# Altium integrated library Battery Holder.IntLib: 2 symbols
Pins are listed as number, name and electrical type; pins without a type are passive.

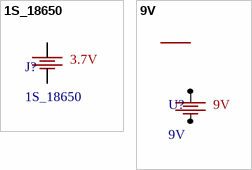
[diagram p0: symbols 1S_18650 to 9V]

## 1S_18650
designator J?
Battery 18650 Holder for 1 Cell, SMD or PTH Version
footprint 1S_18650_PTH (Battery 18650 Holder for 1 Cell, PTH Version)
footprint 1S_18650_SMD (Battery 18650 Holder for 1 Cell, SMD Version)
pins: 1, 2
text: 3.7V

## 9V
designator U?
9V Battery Holder, only Representative, no Connection to Board
footprint 9V (9V Battery Holder, Representative, no Connection to Board)